# EAGLE library part PIC32MX250F128B- (library BaseApp)
Digikey No :- __PIC32MX250F128D-I/PT-ND__
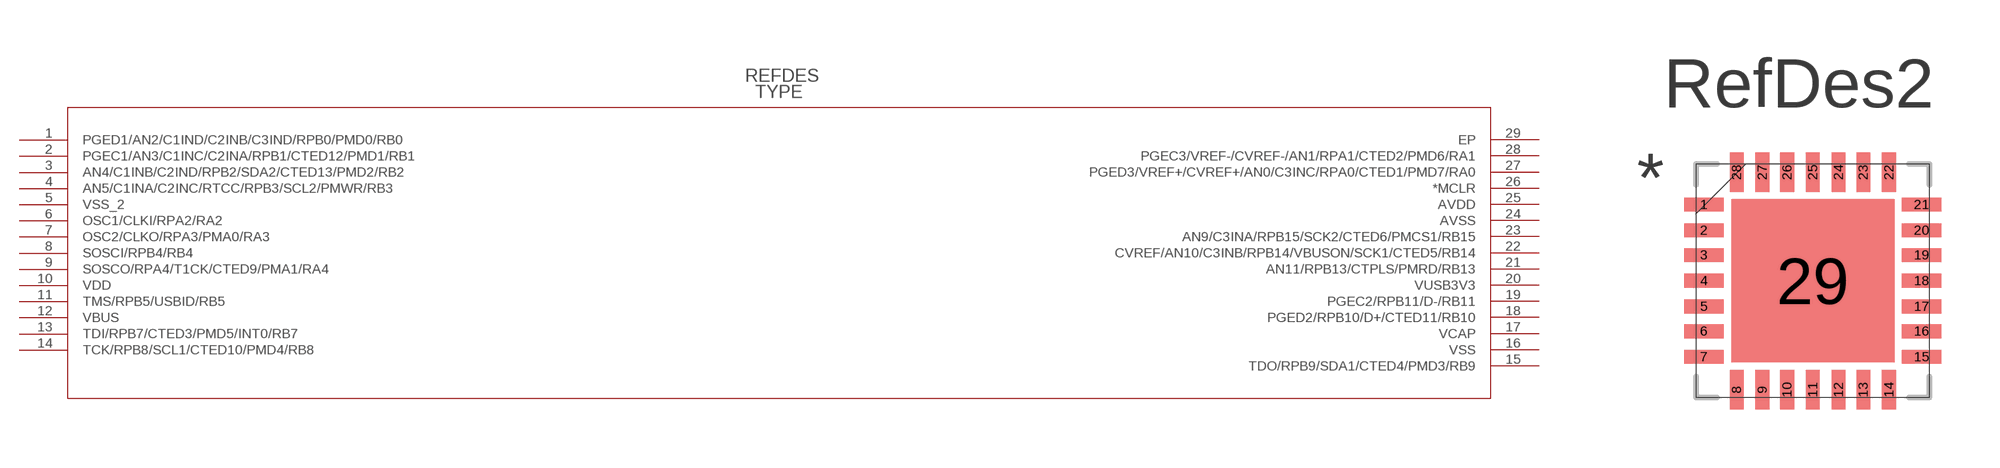
[diagram p120: symbol with the pads of QFN28_6X6MC; footprint QFN28_6X6MC]

Designator prefix U

## PIC32MX250F128B-  [QFN28_6X6MC]
1  PGED1/AN2/C1IND/C2INB/C3IND/RPB0/PMD0/RB0  pas
2  PGEC1/AN3/C1INC/C2INA/RPB1/CTED12/PMD1/RB1  pas
3  AN4/C1INB/C2IND/RPB2/SDA2/CTED13/PMD2/RB2  pas
4  AN5/C1INA/C2INC/RTCC/RPB3/SCL2/PMWR/RB3  pas
5  VSS_2  pas
6  OSC1/CLKI/RPA2/RA2  pas
7  OSC2/CLKO/RPA3/PMA0/RA3  pas
8  SOSCI/RPB4/RB4  pas
9  SOSCO/RPA4/T1CK/CTED9/PMA1/RA4  pas
10  VDD  pas
11  TMS/RPB5/USBID/RB5  pas
12  VBUS  pas
13  TDI/RPB7/CTED3/PMD5/INT0/RB7  pas
14  TCK/RPB8/SCL1/CTED10/PMD4/RB8  pas
15  TDO/RPB9/SDA1/CTED4/PMD3/RB9  pas
16  VSS  pas
17  VCAP  pas
18  PGED2/RPB10/D+/CTED11/RB10  pas
19  PGEC2/RPB11/D-/RB11  pas
20  VUSB3V3  pas
21  AN11/RPB13/CTPLS/PMRD/RB13  pas
22  CVREF/AN10/C3INB/RPB14/VBUSON/SCK1/CTED5/RB14  pas
23  AN9/C3INA/RPB15/SCK2/CTED6/PMCS1/RB15  pas
24  AVSS  pas
25  AVDD  pas
26  *MCLR  pas
27  PGED3/VREF+/CVREF+/AN0/C3INC/RPA0/CTED1/PMD7/RA0  pas
28  PGEC3/VREF-/CVREF-/AN1/RPA1/CTED2/PMD6/RA1  pas
29  EP  pas

## Footprint QFN28_6X6MC (pad centres in mm)
smd 1.016 x 0.356: 1 -2.794,1.956; 2 -2.794,1.295; 3 -2.794,0.66; 4 -2.794,0; 5 -2.794,-0.66; 6 -2.794,-1.295; 7 -2.794,-1.956; 15 2.794,-1.956; 16 2.794,-1.295; 17 2.794,-0.66; 18 2.794,0; 19 2.794,0.66; 20 2.794,1.295; 21 2.794,1.956
smd 0.356 x 1.016: 8 -1.956,-2.794; 9 -1.295,-2.794; 10 -0.66,-2.794; 11 0,-2.794; 12 0.66,-2.794; 13 1.295,-2.794; 14 1.956,-2.794; 22 1.956,2.794; 23 1.295,2.794; 24 0.66,2.794; 25 0,2.794; 26 -0.66,2.794; 27 -1.295,2.794; 28 -1.956,2.794
smd 4.191 x 4.191: 29 0,0